# Altium schematic symbol library BNO055 Breakout.SchLib: 1 symbol
Pins are listed as number, name and electrical type; pins without a type are passive.

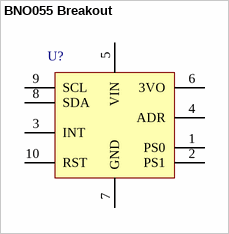
[diagram p0: symbol BNO055 Breakout]

## BNO055 Breakout
designator U?  (value not drawn)
pins: 1 PS0, 2 PS1, 3 INT, 4 ADR, 5 VIN, 6 3VO, 7 GND, 8 SDA, 9 SCL, 10 RST